# EAGLE library part LT3092-TSOT238 (library Neel)
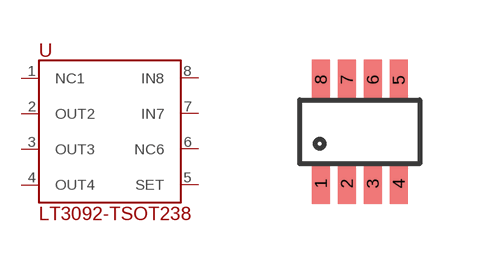
[diagram p26: symbol with the pads of TSOT-23-8; footprint TSOT-23-8]

Designator prefix -

## LT3092-TSOT238  [TSOT-23-8]
1  NC1
2  OUT2
3  OUT3
4  OUT4
5  SET
6  NC6
7  IN7
8  IN8

## Footprint TSOT-23-8 (pad centres in mm)
smd 0.45 x 1: 1 -0.975,-1.3; 2 -0.325,-1.3; 3 0.325,-1.3; 4 0.975,-1.3; 5 0.975,1.3; 6 0.325,1.3; 7 -0.325,1.3; 8 -0.975,1.3